# EAGLE library part MAX6971ANG+ (library 3DPOV)
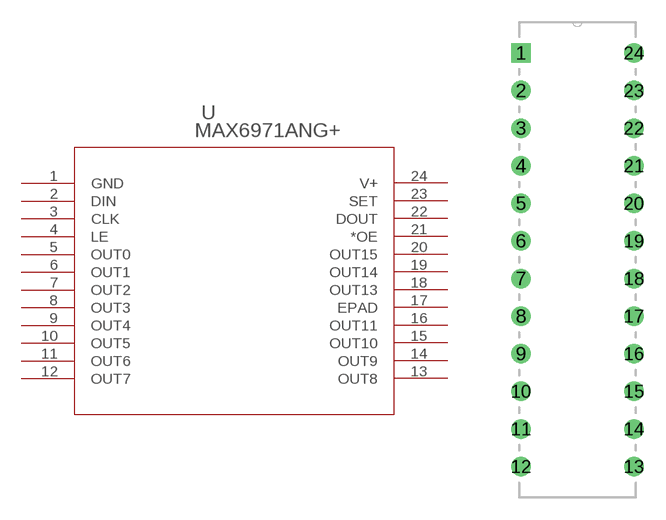
[diagram p1: symbol with the pads of 21-0043D_24; footprint 21-0043D_24]

Designator prefix U

## MAX6971ANG+ (MANUFACTURER_PART_NUMBER: max6971ang+; VENDOR: MAXIM)  [21-0043D_24]
1  GND  pwr
2  DIN  in
3  CLK  in
4  LE  in
5  OUT0  out
6  OUT1  out
7  OUT2  out
8  OUT3  out
9  OUT4  out
10  OUT5  out
11  OUT6  out
12  OUT7  out
13  OUT8  out
14  OUT9  out
15  OUT10  out
16  OUT11  out
17  EPAD  pas
18  OUT13  out
19  OUT14  out
20  OUT15  out
21  *OE  pas
22  DOUT  out
23  SET  pas
24  V+  pwr

## Footprint 21-0043D_24 (pad centres in mm)
drill 0.813 square: 1 -7.62,27.94
drill 0.813: 2 -7.62,25.4; 3 -7.62,22.86; 4 -7.62,20.32; 5 -7.62,17.78; 6 -7.62,15.24; 7 -7.62,12.7; 8 -7.62,10.16; 9 -7.62,7.62; 10 -7.62,5.08; 11 -7.62,2.54; 12 -7.62,0; 13 0,0; 14 0,2.54; 15 0,5.08; 16 0,7.62; 17 0,10.16; 18 0,12.7; 19 0,15.24; 20 0,17.78; 21 0,20.32; 22 0,22.86; 23 0,25.4; 24 0,27.94